# Altium schematic symbol library CAP-POLAR.SchLib: 1 symbol
Pins are listed as number, name and electrical type; pins without a type are passive.

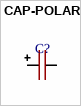
[diagram p0: symbol CAP-POLAR]

## CAP-POLAR
designator C?
footprint CAPPOL-30x35
footprint CAPPOL-12x25
footprint CAPPOL-10x20
footprint CAP-TAN-A
footprint CAP-TAN-B
footprint CAP-TAN-B2
footprint CAP-TAN-C
footprint CAP-TAN-D
footprint CAP-TAN-R
footprint CAP-TAN-X
footprint CAP 100uF_500V 22x40mm
footprint FP-RAD-TH-D_16_0_5-L_25_2-MFG
footprint CAP_POL_16x40
footprint CAPPOL-18x40
footprint CAP_POL_36X60
footprint CAP_SMD_Size_E
footprint CAP_SMD_Size_G
footprint CAP_1000uF_50V 13x25
footprint CAP_25V_2200uF 13x25
footprint HITANO 3300uF 25V  16x25
footprint CAP_50V_2200uF
footprint CAPPOL8x12
footprint CAPPOL_35x60
pins: 1 +, 2 -